# Altium schematic symbol library Charger_SCHLIB.SchLib: 32 symbols
Pins are listed as number, name and electrical type; pins without a type are passive.

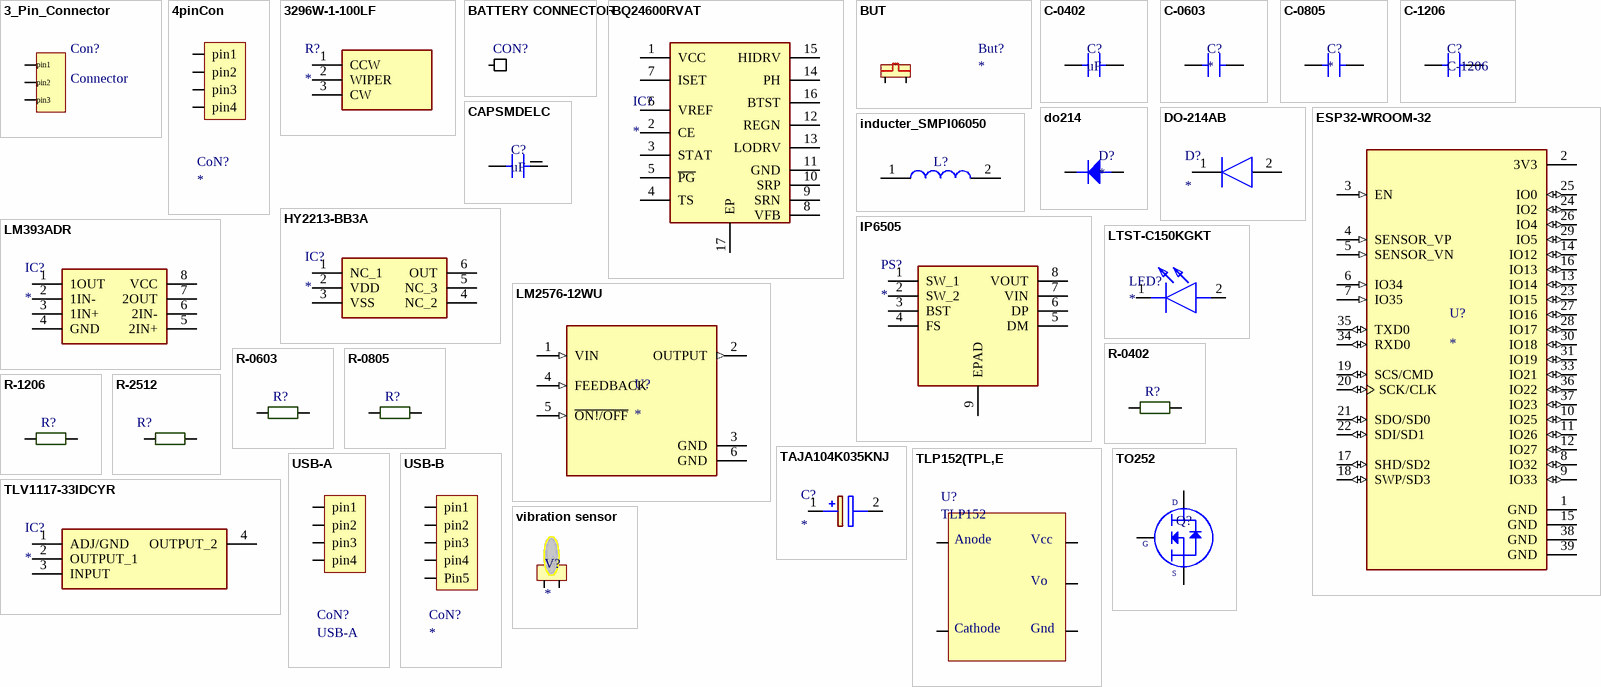
[diagram p0: symbols 3_Pin_Connector to vibration sensor]

## 3_Pin_Connector
designator Con?, comment Connector
footprint 3PINCON
pins: 1, 2, 3
text: pin1; pin2; pin3

## 4pinCon
designator CoN?
footprint 4pinCon
pins: 1 pin1, 2 pin2, 3 pin3, 4 pin4

## 3296W-1-100LF
designator R?
Resistor; Manufacturer_Name: Bourns; Manufacturer_Part_Number: 3296W-1-100LF; Datasheet Link: http://uk.rs-online.com/web/p/products/5219619; Mouser Part Number: 652-3296W-1-100LF; Mouser Price/Stock: https://www.mouser.co.uk/ProductDetail/Bourns/3296W-1-100LF?qs=QXsCy0sQn1AEVjRqsT9BNA%3D%3D; Arrow Part Number: 3296W-1-100LF; Arrow Price/Stock: https://www.arrow.com/en/products/3296w-1-100lf/bourns
footprint 3296W-1
pins: 1 CCW, 2 WIPER, 3 CW

## BATTERY CONNECTOR
designator CON?  (value not drawn)
footprint BATTERY CONNECTOR
pins: 1

## BQ24600RVAT
designator IC?
Integrated Circuit; Manufacturer_Name: Texas Instruments; Manufacturer_Part_Number: BQ24600RVAT; Datasheet Link: http://www.ti.com/lit/gpn/bq24600; Height: 1mm; Mouser Part Number: 595-BQ24600RVAT; Mouser Price/Stock: https://www.mouser.co.uk/ProductDetail/Texas-Instruments/BQ24600RVAT?qs=3cDLNOBdYaVnZPAGVaIbcA%3D%3D; Arrow Part Number: BQ24600RVAT; Arrow Price/Stock: https://www.arrow.com/en/products/bq24600rvat/texas-instruments
footprint BQ24600RVAT
pins: 1 VCC, 2 CE, 3 STAT, 4 TS, 5 ~{PG}, 6 VREF, 7 ISET, 8 VFB, 9 SRN, 10 SRP, 11 GND, 12 REGN, 13 LODRV, 14 PH, 15 HIDRV, 16 BTST, 17 EP

## BUT
designator But?
footprint ButTON
pins: 1, 2

## C-0402
designator C?, comment uF
footprint C-0402R (Capacitor 0402 reflow soldering)
pins: 1, 2

## C-0603
designator C?
footprint C-0603W (capacitor 0603 wave soldering)
pins: 1, 2

## C-0805
designator C?
footprint C-0805W (capacitor 0805 wave soldering)
pins: 1, 2

## C-1206
designator C?
footprint C-1206W (capacitor 1206 wave soldering)
pins: 1, 2

## CAPSMDELC
designator C?, comment uF
footprint CapSmdElc (Aluminum Electrolytic Capacitor, Body 6.70x6.70x6.30mm, IPC Low Density)
pins: 1, 2

## do214
designator D?
DIODE FAST SWITCHING Single 150mA 75V SMT SOD323
footprint DO-214AC
footprint DO-214AC
pins: a, k

## DO-214AB
designator D?
Diode; Manufacturer_Name: LITTELFUSE; Manufacturer_Part_Number: 5.0SMDJ22A; Datasheet Link: http://www.littelfuse.com/~/media/electronics/datasheets/tvs_diodes/littelfuse_tvs_diode_5_0smdj_datasheet.pdf.pdf; Height: 2.62mm; Mouser Part Number: 576-5.0SMDJ22A; Mouser Price/Stock: https://www.mouser.co.uk/ProductDetail/Littelfuse/50SMDJ22A?qs=ZSIFh4sPSRpU5CWgPcr8zA%3D%3D; Arrow Part Number: 5.0SMDJ22A; Arrow Price/Stock: https://www.arrow.com/en/products/5.0smdj22a/littelfuse
footprint DO-214AB
pins: 1 K, 2 A

## ESP32-WROOM-32
designator U?
Bluetooth, WiFi Transceiver Module 2.4GHz ~ 2.5GHz Surface Mount; MF: Espressif Systems; MP: ESP32-WROOM-32; Package: Module Espressif Systems; Digi-Key_Part_Number: 1904-1010-1-ND; Digi-Key_Purchase_URL: https://www.digikey.com/product-detail/en/espressif-systems/ESP32-WROOM-32/1904-1010-1-ND/8544305?utm_source=snapeda&utm_medium=aggregator&utm_campaign=symbol; Value: *; SnapEDA_Link: https://www.snapeda.com/parts/ESP32-WROOM-32/Espressif%20Systems/view-part/2753322/?ref=snap
footprint MODULE_ESP32-WROOM-32
pins: 1 GND (power), 2 3V3 (power), 3 EN (in), 4 SENSOR_VP (in), 5 SENSOR_VN (in), 6 IO34 (in), 7 IO35 (in), 8 IO32 (io), 9 IO33 (io), 10 IO25 (io), 11 IO26 (io), 12 IO27 (io), 13 IO14 (io), 14 IO12 (io), 15 GND (power), 16 IO13 (io), 17 SHD/SD2 (io), 18 SWP/SD3 (io), 19 SCS/CMD (io), 20 SCK/CLK (io), 21 SDO/SD0 (io), 22 SDI/SD1 (io), 23 IO15 (io), 24 IO2 (io), 25 IO0 (io), 26 IO4 (io), 27 IO16 (io), 28 IO17 (io), 29 IO5 (io), 30 IO18 (io), 31 IO19 (io), 33 IO21 (io), 34 RXD0 (io), 35 TXD0 (io), 36 IO22 (io), 37 IO23 (io), 38 GND (power), 39 GND (power)

## HY2213-BB3A
designator IC?
Integrated Circuit; Manufacturer_Name: Hycon; Manufacturer_Part_Number: HY2213-BB3A; Datasheet Link: https://datasheet.lcsc.com/szlcsc/HYCON-Tech-HY2213-BB3A_C113632.pdf; Height: 1.4mm
footprint HY2213 bms
pins: 1 NC_1, 2 VDD, 3 VSS, 4 NC_2, 5 NC_3, 6 OUT

## inducter_SMPI06050
designator L?  (value not drawn)
footprint inductor
pins: 1, 2

## IP6505
designator PS?
Power Supply; Manufacturer_Name: INJOINIC; Manufacturer_Part_Number: IP6505; Datasheet Link: https://datasheet.lcsc.com/szlcsc/INJOINIC-IP6505_C188335.pdf; Height: 1.65mm
footprint IP6505
pins: 1 SW_1, 2 SW_2, 3 BST, 4 FS, 5 DM, 6 DP, 7 VIN, 8 VOUT, 9 EPAD

## LM393ADR
designator IC?
Integrated Circuit; Manufacturer_Name: Texas Instruments; Manufacturer_Part_Number: LM393ADR; Datasheet Link: http://www.ti.com/lit/ds/symlink/lm393a.pdf; Height: 1.75mm; Mouser Part Number: 595-LM393ADR; Mouser Price/Stock: https://www.mouser.co.uk/ProductDetail/Texas-Instruments/LM393ADR?qs=VolsR0DjNPq76ZV6Dhd8nQ%3D%3D; Arrow Part Number: LM393ADR; Arrow Price/Stock: https://www.arrow.com/en/products/lm393adr/texas-instruments
footprint SOIC127P600X175-8N
pins: 1 1OUT, 2 1IN-, 3 1IN+, 4 GND, 5 2IN+, 6 2IN-, 7 2OUT, 8 VCC

## LM2576-12WU
designator U?
Buck Switching Regulator IC Positive Fixed 12V 1 Output 3A TO-263-6, DÂ²Pak _5 Leads + Tab_, TO-263BA; MP: LM2576-12WU; MF: Microchip; Package: TO-263-5 Microchip; Value: *; SnapEDA_Link: https://www.snapeda.com/parts/LM2576-12WU/Microchip/view-part/2873733/?ref=snap; Price: None; Availability: Unavailable
footprint TO17P1435X465-6N
pins: 1 VIN (in), 2 OUTPUT (out), 3 GND (power), 4 FEEDBACK (in), 5 ~{ON!/OFF} (in), 6 GND (power)

## LTST-C150KGKT
designator LED?
LED; Manufacturer_Name: Lite-On; Manufacturer_Part_Number: LTST-C150KGKT; Datasheet Link: http://optoelectronics.liteon.com/upload/download/ds22-2000-072/ltst-c150kgkt.pdf; Height: 1.2mm; Mouser Part Number: 859-LTST-C150KGKT; Mouser Price/Stock: https://www.mouser.com/Search/Refine.aspx?Keyword=859-LTST-C150KGKT; RS Part Number: 6920871; RS Price/Stock: https://uk.rs-online.com/web/p/products/6920871
footprint LED1206
pins: 1 K, 2 A

## R-0402
designator R?
footprint R-0402R (resistor 0402 reflow soldering)
pins: 1, 2

## R-0603
designator R?
footprint R-0603W (resistor 0603 wave soldering)
pins: 1, 2

## R-0805
designator R?
footprint R-0805W (resistor 0805 wave soldering)
pins: 1, 2

## R-1206
designator R?
footprint R-1206W (resistor 1206 wave soldering)
pins: 1, 2

## R-2512
designator R?
footprint R-2512
pins: 1, 2

## TAJA104K035KNJ
designator C?
Capacitor Polarised; Manufacturer_Name: AVX; Manufacturer_Part_Number: TAJA104K035KNJ; Datasheet Link: http://www.farnell.com/datasheets/1680476.pdf; Height: 1.8mm; Mouser Part Number: 581-TAJA104K035KNJ; Mouser Price/Stock: https://www.mouser.com/Search/Refine.aspx?Keyword=581-TAJA104K035KNJ
footprint CAPPM3216X180N
footprint TANTALUMCAP1206
pins: 1 +, 2 -

## TLP152(TPL,E
designator U?, comment TLP152
OPTOISO 3.75KV GATE DRIVER 6SO-5; Manufacturer: Toshiba; Manufacturer Part Number: TLP152(TPL,E; Number of Channels: 1; Propagation Delay: 165ns; Max Power Dissipation: 260mW; Direction: Unidirectional; Turn-On Delay Time: 190ns; Fall Time: 22ns; Forward Voltage: 1.57V; Output Current: 2.5A; Forward Current: 10mA; Rise Time: 18ns; High Level Output Current: 2A; Pulse Width Distortion (PWD): 50ns; Supplier 1: Mouser; RoHS: Yes; Stock 1: 22321; Pricing 1: 1 = 1.55000, 10 = 0.96800, 50 = 0.96800, 100 = 0.87200, 1000 = 0.54300, 10000 = 0.44000 (USD); Mount: Surface Mount; Case/Package: SO; Number of Pins: 5; Min Operating Temperature: -40°C; Max Operating Temperature: 100°C; Packaging: Tape and Reel; Package Quantity: 3000; Low Level Output Current: 2A; Max Output Current: 2.5A; ComponentLink1URL: https://datasheet.ciiva.com/41848/tlp152-datasheet-en-20120914-41848928.pdf?src-supplier=Digi-Key; ComponentLink1Description: https://datasheet.ciiva.com/41848/tlp152-datasheet-en-20120914-41848928.pdf?src-supplier=Digi-Key; Supplier Part Number 1: 757-TLP152TPLE
footprint TLP152 (SOTFL, 5-Leads, Body 3.75x7.20mm, Pitch 1.27mm, IPC Medium Density)
pins: 1, 2, 3, 4, 5
text: Anode; Vcc; Vo; Cathode; Gnd

## TLV1117-33IDCYR
designator IC?
Integrated Circuit; Manufacturer_Name: Texas Instruments; Manufacturer_Part_Number: TLV1117-33IDCYR; Datasheet Link: http://www.ti.com/lit/ds/symlink/tlv1117-33.pdf; Height: 1.8mm; Mouser Part Number: 595-TLV1117-33IDCYR; Mouser Price/Stock: https://www.mouser.co.uk/ProductDetail/Texas-Instruments/TLV1117-33IDCYR?qs=p6lVfQR1GSoKgp3tAXcW5w%3D%3D; Arrow Part Number: TLV1117-33IDCYR; Arrow Price/Stock: https://www.arrow.com/en/products/tlv1117-33idcyr/texas-instruments
footprint TLV1117
pins: 1 ADJ/GND, 2 OUTPUT_1, 3 INPUT, 4 OUTPUT_2

## TO252
designator Q?
Manufacturer: Infineon; Manufacturer Part Number: IRF3205STRLPBF; Drain to Source Voltage (Vdss): 55V; Continuous Drain Current (ID): 110A; Rds On Max: 8mR; Input Capacitance: 3.247nF; Max Power Dissipation: 200W; Turn-Off Delay Time: 50ns; Turn-On Delay Time: 14ns; Gate to Source Voltage (Vgs): 20V; Threshold Voltage: 4V; Supplier 1: Digi-Key; RoHS: Yes; Stock 1: 3281; Pricing 1: 1 = 1,84000, 10 = 1,66600, 100 = 1,33840 (USD); Mount: Surface Mount; Case/Package: D2PAK; Number of Pins: 3; Min Operating Temperature: -55°C; Max Operating Temperature: 175°C; Packaging: Cut Tape; Power Dissipation: 200W; Drain to Source Resistance: 8mR; Drain to Source Breakdown Voltage: 55V; Length: 0.42inch; Height: 0.19inch; Width: 0.38inch; REACH SVHC: No SVHC; Lead Free: Lead Free; ComponentLink1URL: https://www.alliedelec.com/m/d/b8827ca43655240244f0cc5c2198e6b1.pdf?src-supplier=Allied+Electronics; ComponentLink1Description: https://www.alliedelec.com/m/d/b8827ca43655240244f0cc5c2198e6b1.pdf?src-supplier=Allied+Electronics; ComponentLink2URL: https://www.infineon.com/dgdl/irf3205spbf.pdf?fileId=5546d462533600a4015355defac9190c&src-supplier=Digi-Key; ComponentLink2Description: https://www.infineon.com/dgdl/irf3205spbf.pdf?fileId=5546d462533600a4015355defac9190c&src-supplier=Digi-Key; ComponentLink3URL: http://www.infineon.com/dgdl/irf3205spbf.pdf?fileId=5546d462533600a4015355defac9190c&src-supplier=Digi-Key; ComponentLink3Description: http://www.infineon.com/dgdl/irf3205spbf.pdf?fileId=5546d462533600a4015355defac9190c&src-supplier=Digi-Key; ComponentLink4URL: http://www.farnell.com/datasheets/1884183.pdf?src-supplier=Element14; ComponentLink4Description: http://www.farnell.com/datasheets/1884183.pdf?src-supplier=Element14; Supplier Part Number 1: IRF3205STRLPBFCT-ND
footprint TO-252
pins: 1, 3, 4
text: D; G; S

## USB-A
designator CoN?
footprint usb  a
pins: 1 pin1, 2 pin2, 3 pin3, 4 pin4

## USB-B
designator CoN?
footprint micro USB b
pins: 1 pin1, 2 pin2, 3 pin3, 4 pin4, 5 Pin5

## vibration sensor
designator V?
footprint VIBRATIONSENSOR
pins: 1, 2